# Altium schematic symbol library DIODES.SchLib: 59 symbols
Pins are listed as number, name and electrical type; pins without a type are passive.

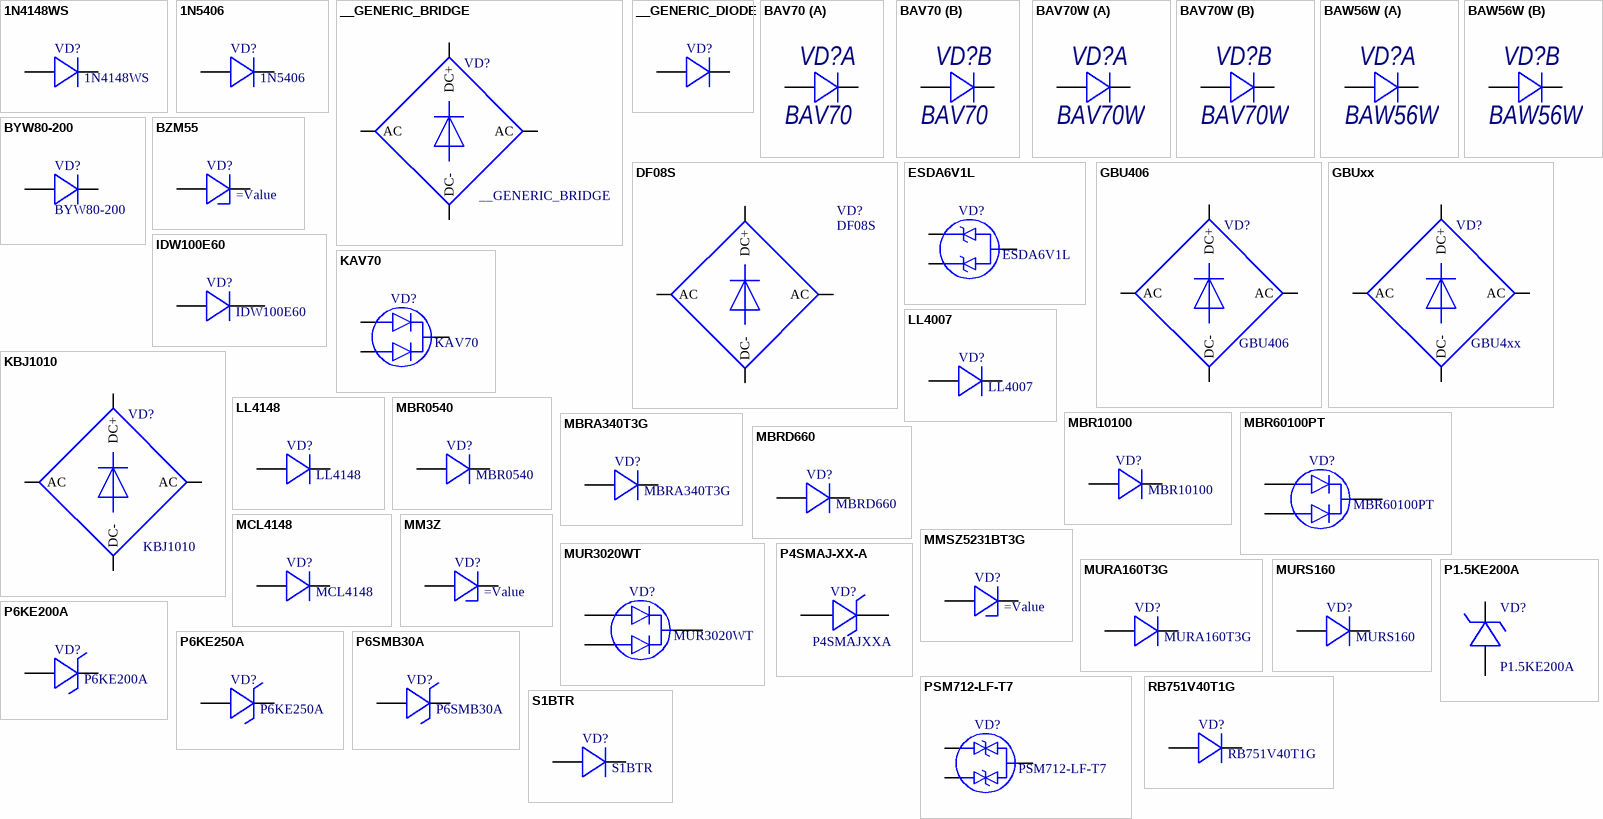
[diagram p0: symbols 1N4148WS to S1BTR]

## 1N4148WS
designator VD?
Диод выпрямительный одиночный /; ComponentDescription: =ComponentType+', '+Comment+', '+Package; ComponentType: Диод выпрямительный одиночный
footprint SOD-323 (SOD-323 SODFL, 2-Leads, Body 1,30x2,60mm, IPC Medium Density); pin to pad A>1 K>2
pins: A, K

## 1N5406
designator VD?
Диод выпрямительный одиночный; ComponentDescription: =ComponentType+', '+Comment+', '+Package
footprint DO-201-H; pin to pad A>1 K>2
footprint DO-201-V; pin to pad A>1 K>2
pins: A, K

## __GENERIC_BRIDGE
designator VD?
Диодный мост, однофазный; ComponentDescription: =ComponentType+', '+Comment+', '+Package; ComponentType: Диодный мост, однофазный
footprint KBJ1010
footprint KBJ1010 R
footprint SDIP 4L (4-LEAD,SDIP,6.5mm WIDE); pin to pad +>3 ->4 AC1>1 AC2>2
footprint GBU406
pins: + DC+, - DC-, AC1 AC, AC2 AC

## __GENERIC_DIODE
designator VD?
Диод выпрямительный одиночный; ComponentDescription: =ComponentType+', '+Comment+', '+Package
footprint DO-15-400; pin to pad A>1 K>2
footprint DO-201-H; pin to pad A>1 K>2
footprint DO-201-V; pin to pad A>1 K>2
footprint DO-213AB (MELF Diode, 2-Leads, Body 5,00x2,50mm, IPC Medium Density); pin to pad A>1 K>2
footprint DO-214AA (SMB, Molded Diode, 2-Leads, Body 4,33x3,65mm, IPC Medium Density); pin to pad A>1 K>2
footprint DO-214AC (SMA 2-Leads, Body 2,55x5,00mm, IPC Medium Density); pin to pad A>1 K>2
footprint MICROMELF(SOD80) (MELF Diode, 2-Leads, Body 1,90x1,15mm, IPC Medium Density); pin to pad A>1 K>2
footprint MINIMELF(SOD-80) (SOD-80, MELF Diode, 2-Leads, Body 3,50x1,45mm, IPC Medium Density); pin to pad A>1 K>2
footprint SOD-123FL (SODFL, 2-Leads, Body 1,70x3,60mm, IPC Medium Density); pin to pad A>1 K>2
footprint SOD-323 (SOD-323 SODFL, 2-Leads, Body 1,30x2,60mm, IPC Medium Density); pin to pad A>1 K>2
footprint TO-247-2-h20; pin to pad A>2 K>1
footprint TO-220-AC; pin to pad A>2 K>1
footprint R-6 (R-6 diode case); pin to pad A>1 K>2
footprint R-6H (R-6 diode case); pin to pad A>1 K>2
footprint R-6H (R-6 diode case)
pins: A, K

## BAV70
designator VD?
Диод выпрямительный, 2 диода, общий катод; ComponentDescription: =ComponentType+', '+Comment+', '+Package; ComponentType: Диод выпрямительный, 2 диода, общий катод
footprint SOT-23-3 (SOT23, 3-Leads, Body 2,90x2,30mm, Pitch 0,95mm, IPC Medium Density); pin to pad A1>1 A2>2 K>3
part A pins: A1, K
part B pins: A2, K

## BAV70W
designator VD?
Диод выпрямительный, 2 диода, общий катод; ComponentDescription: =ComponentType+', '+Comment+', '+Package; ComponentType: Диод выпрямительный, 2 диода, общий катод
footprint SOT-323-3 (SOT-323/SC-70; 3 Leads; Body 2.2 x 2.2 mm, inc. leads (LxW max)); pin to pad A1>1 A2>2 K>3
part A pins: A1, K
part B pins: A2, K

## BAW56W
designator VD?
Диод выпрямительный, 2 диода, общий анод; ComponentDescription: =ComponentType+', '+Comment+', '+Package; ComponentType: Диод выпрямительный, 2 диода, общий анод
footprint SOT-323-3 (SOT-323/SC-70; 3 Leads; Body 2.2 x 2.2 mm, inc. leads (LxW max)); pin to pad A>3 K1>1 K2>2
part A pins: A, K1
part B pins: A, K2

## BYW80-200
designator VD?
Диод выпрямительный одиночный /; ComponentDescription: =ComponentType+', '+Comment+', '+Package; ComponentType: Диод выпрямительный одиночный
footprint TO-220-AC; pin to pad A>2 K>1
pins: A, K

## BZM55
designator VD?
Диод Зенера (стабилитрон); ComponentName: BZM55; ComponentDescription: =ComponentType+', '+ComponentName+' '+Comment+', '+Package; ComponentType: Диод Зенера (стабилитрон)
footprint MICROMELF(SOD80) (MELF Diode, 2-Leads, Body 1,90x1,15mm, IPC Medium Density); pin to pad A>1 K>2
pins: A, K

## DF08S
designator VD?
Диодный мост, однофазный; ComponentType: Диодный мост, однофазный; ComponentDescription: =ComponentType+', '+Comment+', '+Package
footprint SDIP 4L (4-LEAD,SDIP,6.5mm WIDE); pin to pad AC1>1 AC2>2 DC+>3 DC->4
pins: AC1 AC, AC2 AC, DC+, DC-

## ESDA6V1L
designator VD?
Диод защитный, 2 однополярных диода; ComponentDescription: =ComponentType+', '+Comment+', '+Package; ComponentType: Диод защитный, 2 однополярных диода
footprint SOT-23-3 (SOT23, 3-Leads, Body 2,90x2,30mm, Pitch 0,95mm, IPC Medium Density); pin to pad A1>1 A2>2 K>3
pins: A1, A2, K

## GBU406
designator VD?
Диодный мост, однофазный; ComponentDescription: =ComponentType+', '+Comment+', '+Package; ComponentType: Диодный мост, однофазный
footprint GBU
pins: + DC+, - DC-, AC1 AC, AC2 AC

## GBUxx
designator VD?, comment GBU4xx
Диодный мост, однофазный; ComponentDescription: =ComponentType+', '+Comment+', '+Package; ComponentType: Диодный мост, однофазный
footprint GBU
footprint GBU _1
pins: + DC+, - DC-, AC1 AC, AC2 AC

## IDW100E60
designator VD?
Диод выпрямительный одиночный; ComponentDescription: =ComponentType+', '+Comment+', '+Package; ComponentType: Диод выпрямительный одиночный
footprint TO-247-h20; pin to pad A>3 K>2
pins: A, K

## KAV70
designator VD?
Диод выпрямительный, 2 диода, общий катод; ComponentDescription: =ComponentType+', '+Comment+', '+Package; ComponentType: Диод выпрямительный, 2 диода, общий катод
footprint SOT-23-3 (SOT23, 3-Leads, Body 2,90x2,30mm, Pitch 0,95mm, IPC Medium Density); pin to pad A1>1 A2>2 K>3
pins: A1, A2, K

## KBJ1010
designator VD?
Диодный мост, однофазный; ComponentDescription: =ComponentType+', '+Comment+', '+Package; ComponentType: Диодный мост, однофазный
footprint KBJ1010
footprint KBJ1010 R
pins: + DC+, - DC-, AC1 AC, AC2 AC

## LL4007
designator VD?
Диод выпрямительный одиночный /; ComponentDescription: =ComponentType+', '+Comment+', '+Package; ComponentType: Диод выпрямительный одиночный
footprint DO-213AB (MELF Diode, 2-Leads, Body 5,00x2,50mm, IPC Medium Density); pin to pad A>1 K>2
pins: A, K

## LL4148
designator VD?
Диод выпрямительный одиночный /; ComponentDescription: =ComponentType+', '+Comment+', '+Package; ComponentType: Диод выпрямительный одиночный
footprint MINIMELF(SOD-80) (SOD-80, MELF Diode, 2-Leads, Body 3,50x1,45mm, IPC Medium Density); pin to pad A>1 K>2
pins: A, K

## MBR0540
designator VD?
Диод выпрямительный одиночный; ComponentDescription: =ComponentType+', '+Comment+', '+Package; =ComponentType: Диод выпрямительный одиночный
footprint SOD-123FL (SODFL, 2-Leads, Body 1,70x3,60mm, IPC Medium Density); pin to pad A>1 K>2
pins: A, K

## MBR10100
designator VD?
Диод выпрямительный одиночный /; ComponentDescription: =ComponentType+', '+Comment+', '+Package; ComponentType: Диод выпрямительный одиночный
footprint TO-220-AC; pin to pad A>2 K>1
pins: A, K

## MBR60100PT
designator VD?
Диод выпрямительный, 2 диода, общий катод; ComponentDescription: =ComponentType+', '+Comment+', '+Package; ComponentType: Диод выпрямительный, 2 диода, общий катод
footprint TO-247-h20; pin to pad A1>1 A2>3 K>2
pins: A1, A2, K

## MBRA340T3G
designator VD?
Диод выпрямительный одиночный; ComponentDescription: =ComponentType+', '+Comment+', '+Package; ComponentType: Диод выпрямительный одиночный
footprint DO-214AC (SMA 2-Leads, Body 2,55x5,00mm, IPC Medium Density); pin to pad A>1 K>2
pins: A, K

## MBRD660
designator VD?
Диод выпрямительный одиночный; ComponentDescription: =ComponentType+', '+Comment+', '+Package; ComponentType: Диод выпрямительный одиночный
footprint TO-252 (D-PAK, 3-Pads, Body 6,20x6,71mm (max), IPC Medium Density); pin to pad A>1+3 K>4
pins: A, K

## MCL4148
designator VD?
Диод выпрямительный одиночный /; ComponentDescription: =ComponentType+', '+Comment+', '+Package; ComponentType: Диод выпрямительный одиночный
footprint MICROMELF(SOD80) (MELF Diode, 2-Leads, Body 1,90x1,15mm, IPC Medium Density); pin to pad A>1 K>2
pins: A, K

## MM3Z
designator VD?
Диод Зенера (стабилитрон) /; ComponentName: MM3Z; ComponentDescription: =ComponentType+', '+ComponentName+' '+Comment+', '+Package; ComponentType: Диод Зенера (стабилитрон)
footprint SOD-323 (SOD-323 SODFL, 2-Leads, Body 1,30x2,60mm, IPC Medium Density); pin to pad A>1 K>2
pins: A, K

## MMSZ5231BT3G
designator VD?
Диод Зенера (стабилитрон) /; ComponentName: MMSZ5231BT3G; ComponentDescription: =ComponentType+', '+ComponentName+' '+Comment+', '+Package; ComponentType: Диод Зенера (стабилитрон)
footprint SOD-123FL (SODFL, 2-Leads, Body 1,70x3,60mm, IPC Medium Density); pin to pad A>1 K>2
pins: A, K

## MUR3020WT
designator VD?
Диод выпрямительный, 2 диода, общий катод; ComponentDescription: =ComponentType+', '+Comment+', '+Package; ComponentType: Диод выпрямительный, 2 диода, общий катод
footprint TO-247-h20; pin to pad A1>1 A2>3 K>2
pins: A1, A2, K

## MURA160T3G
designator VD?
Диод выпрямительный одиночный; ComponentDescription: =ComponentType+', '+Comment+', '+Package; ComponentType: Диод выпрямительный одиночный
footprint DO-214AC (SMA 2-Leads, Body 2,55x5,00mm, IPC Medium Density); pin to pad A>1 K>2
pins: A, K

## MURS160
designator VD?
Диод выпрямительный одиночный /; ComponentDescription: =ComponentType+', '+Comment+', '+Package; ComponentType: Диод выпрямительный одиночный
footprint DO-214AA (SMB, Molded Diode, 2-Leads, Body 4,33x3,65mm, IPC Medium Density); pin to pad A>1 K>2
pins: A, K

## P1.5KE200A
designator VD?
Защитный диод униполярный; ComponentDescription: =ComponentType+', '+Comment+', '+Package; ComponentType: Защитный диод униполярный
footprint DO-201-H; pin to pad A>1 K>2
footprint DO-201-V; pin to pad A>1 K>2
pins: A, K

## P4SMAJ-XX-A
designator VD?, comment P4SMAJXXA
Защитный диод униполярный; ComponentDescription: =ComponentType+', '+Comment+', '+Package; ComponentType: Защитный диод униполярный
footprint DO-214AC (SMA 2-Leads, Body 2,55x5,00mm, IPC Medium Density); pin to pad A>1 K>2
pins: A, K

## P6KE200A
designator VD?
Защитный диод униполярный; ComponentDescription: =ComponentType+', '+Comment+', '+Package; ComponentType: Защитный диод униполярный
footprint DO-15-400; pin to pad A>1 K>2
pins: A, K

## P6KE250A
designator VD?
Защитный диод униполярный; ComponentDescription: =ComponentType+', '+Comment+', '+Package; ComponentType: Защитный диод униполярный
footprint DO-15-400; pin to pad A>1 K>2
pins: A, K

## P6SMB30A
designator VD?
Защитный диод униполярный; ComponentDescription: =ComponentType+', '+Comment+', '+Package; ComponentType: Защитный диод униполярный
footprint DO-214AA (SMB, Molded Diode, 2-Leads, Body 4,33x3,65mm, IPC Medium Density); pin to pad A>1 K>2
pins: A, K

## PSM712-LF-T7
designator VD?
Диод защитный, 2 биполярных диода; ComponentDescription: =ComponentType+', '+Comment+', '+Package; ComponentType: Диод защитный, 2 биполярных диода
footprint SOT-23-3 (SOT23, 3-Leads, Body 2,90x2,30mm, Pitch 0,95mm, IPC Medium Density); pin to pad A1>1 A2>2 A3,A4>3
pins: A1, A2, A3,A4

## RB751V40T1G
designator VD?
Диод выпрямительный одиночный; ComponentDescription: =ComponentType+', '+Comment+', '+Package; ComponentType: Диод выпрямительный одиночный
footprint SOD-323 (SOD-323 SODFL, 2-Leads, Body 1,30x2,60mm, IPC Medium Density); pin to pad A>1 K>2
pins: A, K

## S1BTR
designator VD?
Диод выпрямительный одиночный; ComponentDescription: =ComponentType+', '+Comment+', '+Package; ComponentType: Диод выпрямительный одиночный
footprint DO-214AC (SMA 2-Leads, Body 2,55x5,00mm, IPC Medium Density); pin to pad A>1 K>2
pins: A, K

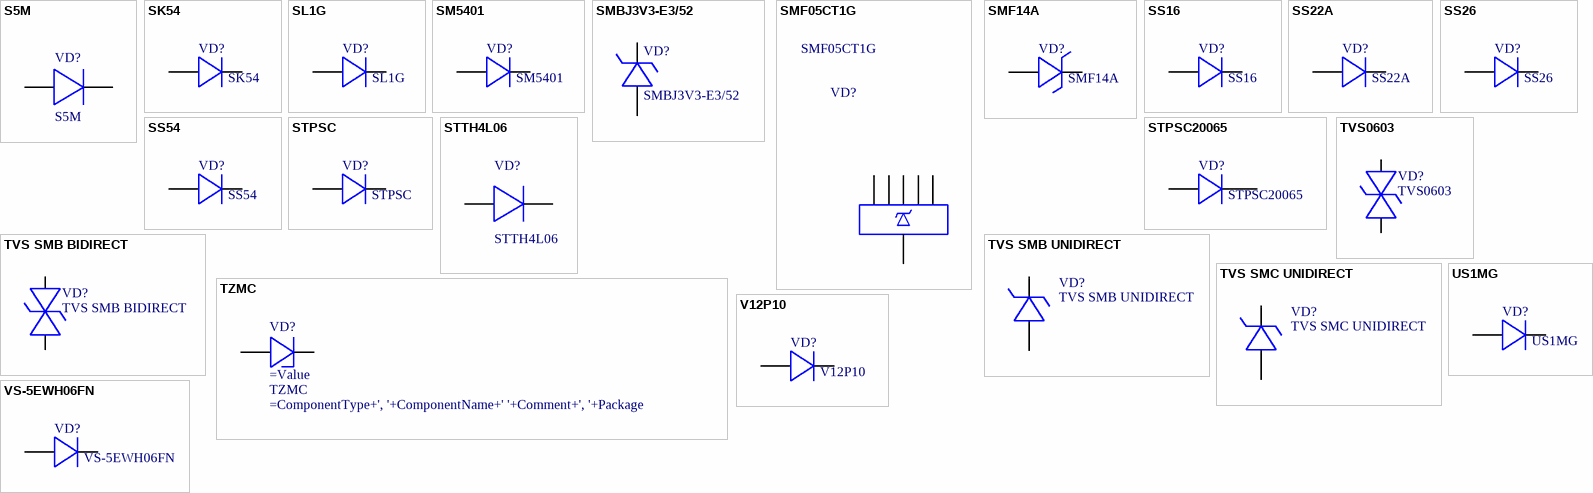
[diagram p1: symbols S5M to VS-5EWH06FN]

## S5M
designator VD?
Диод выпрямительный одиночный; ComponentDescription: =ComponentType+', '+Comment+', '+Package; ComponentType: Диод выпрямительный одиночный
footprint DO-214AB (SMC); pin to pad A>1 K>2
pins: A, K

## SK54
designator VD?
Диод выпрямительный одиночный; ComponentDescription: =ComponentType+', '+Comment+', '+Package; ComponentType: Диод выпрямительный одиночный
footprint DO-214AA (SMB, Molded Diode, 2-Leads, Body 4,33x3,65mm, IPC Medium Density); pin to pad A>1 K>2
pins: A, K

## SL1G
designator VD?
Диод выпрямительный одиночный; ComponentDescription: =ComponentType+', '+Comment+', '+Package; ComponentType: Диод выпрямительный одиночный
footprint SOD-123FL (SODFL, 2-Leads, Body 1,70x3,60mm, IPC Medium Density); pin to pad A>1 K>2
pins: A, K

## SM5401
designator VD?
Диод выпрямительный одиночный; ComponentDescription: =ComponentType+', '+Comment+', '+Package; ComponentType: Диод выпрямительный одиночный
footprint DO-213AB (MELF Diode, 2-Leads, Body 5,00x2,50mm, IPC Medium Density); pin to pad A>1 K>2
pins: A, K

## SMBJ3V3-E3/52
designator VD?
Защитный диод униполярный - SMB (DO-214AA); ComponentDescription: =ComponentType+', '+Comment+', '+Package; ComponentType: Защитный диод униполярный
footprint DO-214AA (SMB, Molded Diode, 2-Leads, Body 4,33x3,65mm, IPC Medium Density); pin to pad A>1 K>2
pins: A, K

## SMF05CT1G
designator VD?
Диод защитный, сборка 5 диодов; ComponentDescription: =ComponentType+', '+Comment+', '+Package; ComponentType: Диод защитный, 2 однополярных диода
footprint SOT-323-6 (SOTFL, 6-Leads, Body 2,00x2,10mm, Pitch 0,65mm, IPC Medium Density)
pins: 1 K1, 2 A, 3 K5, 4 K4, 5 K3, 6 K2

## SMF14A
designator VD?
Защитный диод униполярный; ComponentDescription: =ComponentType+', '+Comment+', '+Package; ComponentType: Защитный диод униполярный
footprint SOD-123FL (SODFL, 2-Leads, Body 1,70x3,60mm, IPC Medium Density); pin to pad A>1 K>2
pins: A, K

## SS16
designator VD?
Диод выпрямительный одиночный; ComponentDescription: =ComponentType+', '+Comment+', '+Package; ComponentType: Диод выпрямительный одиночный
footprint DO-214AC (SMA 2-Leads, Body 2,55x5,00mm, IPC Medium Density); pin to pad A>1 K>2
pins: A, K

## SS22A
designator VD?
Диод выпрямительный одиночный; ComponentDescription: =ComponentType+', '+Comment+', '+Package; ComponentType: Диод выпрямительный одиночный
footprint DO-214AC (SMA 2-Leads, Body 2,55x5,00mm, IPC Medium Density); pin to pad A>1 K>2
pins: A, K

## SS26
designator VD?
Диод выпрямительный одиночный; ComponentDescription: =ComponentType+', '+Comment+', '+Package; ComponentType: Диод выпрямительный одиночный
footprint DO-214AA (SMB, Molded Diode, 2-Leads, Body 4,33x3,65mm, IPC Medium Density); pin to pad A>1 K>2
pins: A, K

## SS54
designator VD?
Диод выпрямительный одиночный; ComponentDescription: =ComponentType+', '+Comment+', '+Package; ComponentType: Диод выпрямительный одиночный
footprint DO-214AC (SMA 2-Leads, Body 2,55x5,00mm, IPC Medium Density); pin to pad A>1 K>2
pins: A, K

## STPSC
designator VD?
Диод выпрямительный одиночный; ComponentDescription: =ComponentType+', '+Comment+', '+Package; ComponentType: Диод выпрямительный одиночный
footprint TO-220-AC; pin to pad A>2 K>1
pins: A, K

## STPSC20065
designator VD?
Диод выпрямительный одиночный; ComponentDescription: =ComponentType+', '+Comment+', '+Package; ComponentType: Диод выпрямительный одиночный
footprint TO-247-2-h20; pin to pad A>2 K>1
pins: A, K

## STTH4L06
designator VD?
Диод выпрямительный одиночный; ComponentDescription: =ComponentType+', '+Comment+', '+Package; Value: STTH4L06; ComponentType: Диод выпрямительный одиночный
footprint TO-220-AC
footprint TO220AC-BENT_MIROR
footprint TO220AC-BENT
pins: 1 K, 2 A

## TVS0603
designator VD?
Защитный диод биполярный - 0603; ComponentDescription: =ComponentType+', '+Comment+', '+Package; ComponentType: Защитный диод биполярный - 0402
footprint TVS-0603; pin to pad A1>1 A2>2
pins: A1, A2

## TVS SMB BIDIRECT
designator VD?
Защитный диод биполярный - SMB (DO-214AA); ComponentDescription: =ComponentType+', '+Comment+', '+Package; ComponentType: Защитный диод биполярный - SMB (DO-214AA)
footprint DO-214AA (SMB, Molded Diode, 2-Leads, Body 4,33x3,65mm, IPC Medium Density); pin to pad A1>1 A2>2
pins: A1, A2

## TVS SMB UNIDIRECT
designator VD?
Защитный диод униполярный - SMB (DO-214AA); ComponentDescription: =ComponentType+', '+Comment+', '+Package; ComponentType: Защитный диод униполярный - SMB (DO-214AA)
footprint DO-214AA (SMB, Molded Diode, 2-Leads, Body 4,33x3,65mm, IPC Medium Density); pin to pad A>1 K>2
pins: A, K

## TVS SMC UNIDIRECT
designator VD?
Защитный диод униполярный - SMC (DO-214AB); ComponentDescription: =ComponentType+', '+Comment+', '+Package; ComponentType: Защитный диод униполярный - SMB (DO-214AA)
footprint DO-214AB (SMC); pin to pad A>1 K>2
pins: A, K

## TZMC
designator VD?  ComponentName: TZMC
Диод Зенера (стабилитрон); ComponentType: Диод Зенера (стабилитрон); ComponentDescription: =ComponentType+', '+ComponentName+' '+Comment+', '+Package
footprint MINIMELF(SOD-80) (SOD-80, MELF Diode, 2-Leads, Body 3,50x1,45mm, IPC Medium Density); pin to pad A>1 K>2
pins: A, K

## US1MG
designator VD?
Диод выпрямительный одиночный; ComponentDescription: =ComponentType+', '+Comment+', '+Package; ComponentType: Диод выпрямительный одиночный
footprint DO-214AC (SMA 2-Leads, Body 2,55x5,00mm, IPC Medium Density); pin to pad A>1 K>2
pins: A, K

## V12P10
designator VD?
Диод выпрямительный одиночный; ComponentDescription: =ComponentType+', '+Comment+', '+Package; ComponentType: Диод выпрямительный одиночный
footprint TO-277A; pin to pad A>1+2 K>3
pins: A, K

## VS-5EWH06FN
designator VD?
Диод выпрямительный одиночный; ComponentDescription: =ComponentType+', '+Comment+', '+Package; ComponentType: Диод выпрямительный одиночный
footprint TO-252 (D-PAK, 3-Pads, Body 6,20x6,71mm (max), IPC Medium Density); pin to pad A>3 K>4
pins: A, K